# EAGLE library part MCP2515-20P (library Arlinked)
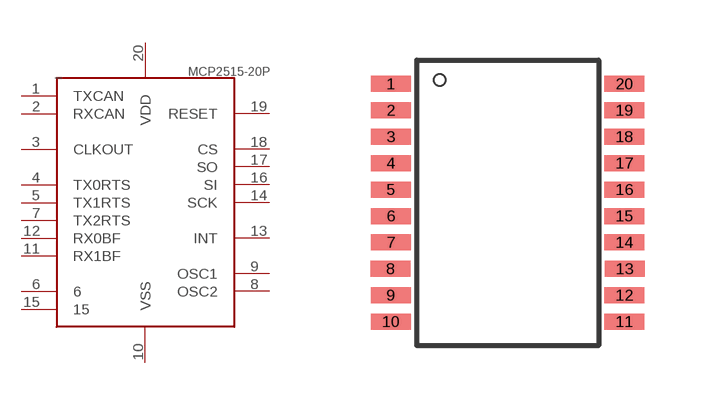
[diagram p1: symbol with the pads of TSSOP20; footprint TSSOP20]

Designator prefix _

## MCP2515-20P  [TSSOP20]
1  TXCAN
2  RXCAN
3  CLKOUT
4  TX0RTS
5  TX1RTS
6  6  nc
7  TX2RTS
8  OSC2
9  OSC1
10  VSS  pwr
11  RX1BF
12  RX0BF
13  INT
14  SCK
15  15  nc
16  SI
17  SO
18  CS
19  RESET
20  VDD  pwr

## Footprint TSSOP20 (pad centres in mm)
smd 1 x 0.4: 1 -2.937,2.693; 2 -2.937,2.032; 3 -2.937,1.372; 4 -2.937,0.712; 5 -2.937,0.051; 6 -2.937,-0.609; 7 -2.937,-1.27; 8 -2.943,-1.93; 9 -2.937,-2.59; 10 -2.937,-3.251; 11 2.905,-3.251; 12 2.905,-2.59; 13 2.911,-1.93; 14 2.905,-1.27; 15 2.905,-0.609; 16 2.905,0.051; 17 2.905,0.712; 18 2.905,1.372; 19 2.905,2.032; 20 2.905,2.693